# EAGLE library part ILD610 (library optocoupler_ps)
SIEMENS OPTO COUPLER
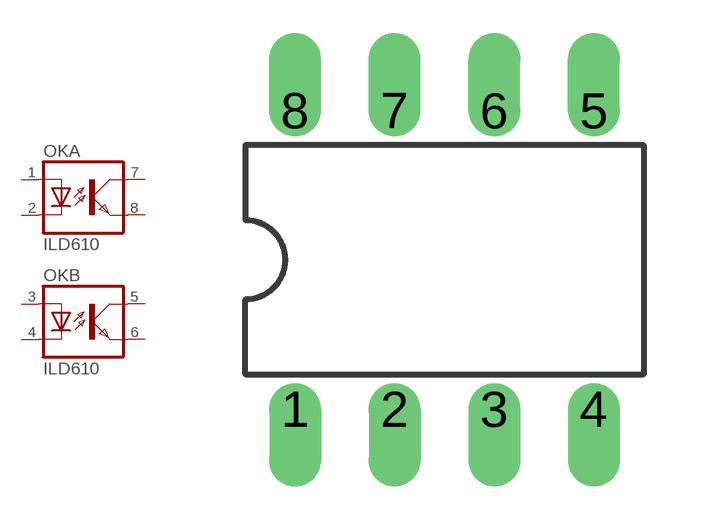
[diagram p4: symbol with the pads of DIL08; footprint DIL08]

Designator prefix OK; gates A=OK B=OK

## ILD610 (MF: VISHAY/TELEFUNKEN; MPN: ILD610-4; OC_FARNELL: unknown; OC_NEWARK: 20H8702)  [DIL08]
1  A:A  pas
2  A:C  pas
3  B:A  pas
4  B:C  pas
5  B:COL  pas
6  B:EMIT  pas
7  A:COL  pas
8  A:EMIT  pas

## Footprint DIL08 (pad centres in mm)
Dual In Line Package
drill 0.813 offset: 1 -3.81,-3.81; 2 -1.27,-3.81; 3 1.27,-3.81; 4 3.81,-3.81; 5 3.81,3.81; 6 1.27,3.81; 7 -1.27,3.81; 8 -3.81,3.81